# EAGLE library part IDC-40-R-REVERSED (library ebd-con)
40 pin IDC header male right-angled Reversed pin layout
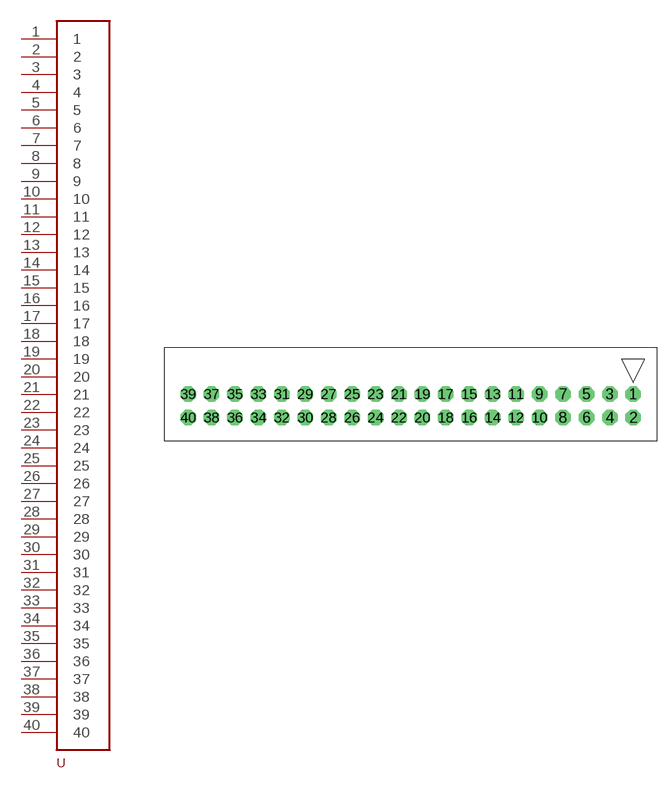
[diagram p3: symbol with the pads of IDC-40-R-REVERSED; footprint IDC-40-R-REVERSED]

Designator prefix -

## IDC-40-R-REVERSEDIDC-40-R-REVERSED  [IDC-40-R-REVERSED]
1  1
2  2
3  3
4  4
5  5
6  6
7  7
8  8
9  9
10  10
11  11
12  12
13  13
14  14
15  15
16  16
17  17
18  18
19  19
20  20
21  21
22  22
23  23
24  24
25  25
26  26
27  27
28  28
29  29
30  30
31  31
32  32
33  33
34  34
35  35
36  36
37  37
38  38
39  39
40  40

## Footprint IDC-40-R-REVERSED (pad centres in mm)
drill 1.016 pad 1.676 octagon: 1 25.4,2.54; 2 25.4,0; 3 22.86,2.54; 4 22.86,0; 5 20.32,2.54; 6 20.32,0; 7 17.78,2.54; 8 17.78,0; 9 15.24,2.54; 10 15.24,0; 11 12.7,2.54; 12 12.7,0; 13 10.16,2.54; 14 10.16,0; 15 7.62,2.54; 16 7.62,0; 17 5.08,2.54; 18 5.08,0; 19 2.54,2.54; 20 2.54,0; 21 0,2.54; 22 0,0; 23 -2.54,2.54; 24 -2.54,0; 25 -5.08,2.54; 26 -5.08,0; 27 -7.62,2.54; 28 -7.62,0; 29 -10.16,2.54; 30 -10.16,0; 31 -12.7,2.54; 32 -12.7,0; 33 -15.24,2.54; 34 -15.24,0; 35 -17.78,2.54; 36 -17.78,0; 37 -20.32,2.54; 38 -20.32,0; 39 -22.86,2.54; 40 -22.86,0